# Altium schematic symbol library BZG03C15TR3.SCHLIB: 1 symbol
Pins are listed as number, name and electrical type; pins without a type are passive.

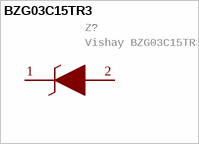
[diagram p0: symbol BZG03C15TR3]

## BZG03C15TR3
designator Z?, comment Vishay BZG03C15TR3 Zener Diode, 15V 6% 3000 mW SMT 2-Pin DO-214AC   Source:  Datasheet
GateName_1: G$1; SymbolName_1: BZG03C15TR3; LibraryName: BZG03C15TR3; DeviceSetName: BZG03C15TR3; Package: DIOM5226X230N; Manufacturer_Name: Vishay; Manufacturer_Part_Number: BZG03C15TR3; Mouser_Part_Number: 78-BZG03C15-TR3; Mouser_Price-Stock: https://www.mouser.com/Search/Refine.aspx?Keyword=78-BZG03C15-TR3; Arrow_Part_Number: BZG03C15TR3; Arrow_Price-Stock: https://www.arrow.com/en/products/bzg03c15tr3/vishay; Description: Vishay BZG03C15TR3 Zener Diode, 15V 6% 3000 mW SMT 2-Pin DO-214AC; Height: 2.3mm
footprint DIOM5226X230N
pins: 1 K (io), 2 A (io)